# Altium footprint library FRM3-X17_STM32 Range Finder Board.PcbLib: 26 footprints (part 2 of 2)
Each footprint in its own frame and in the unit in brackets; x right, y up, seen from the top. Pads: shape width x height; smd on the part's side, far side on the other; paste and mask are expansions set on the pad; w line width, h text height; cw(c..) or ccw(c..) is an arc to the next point about the centre after c.
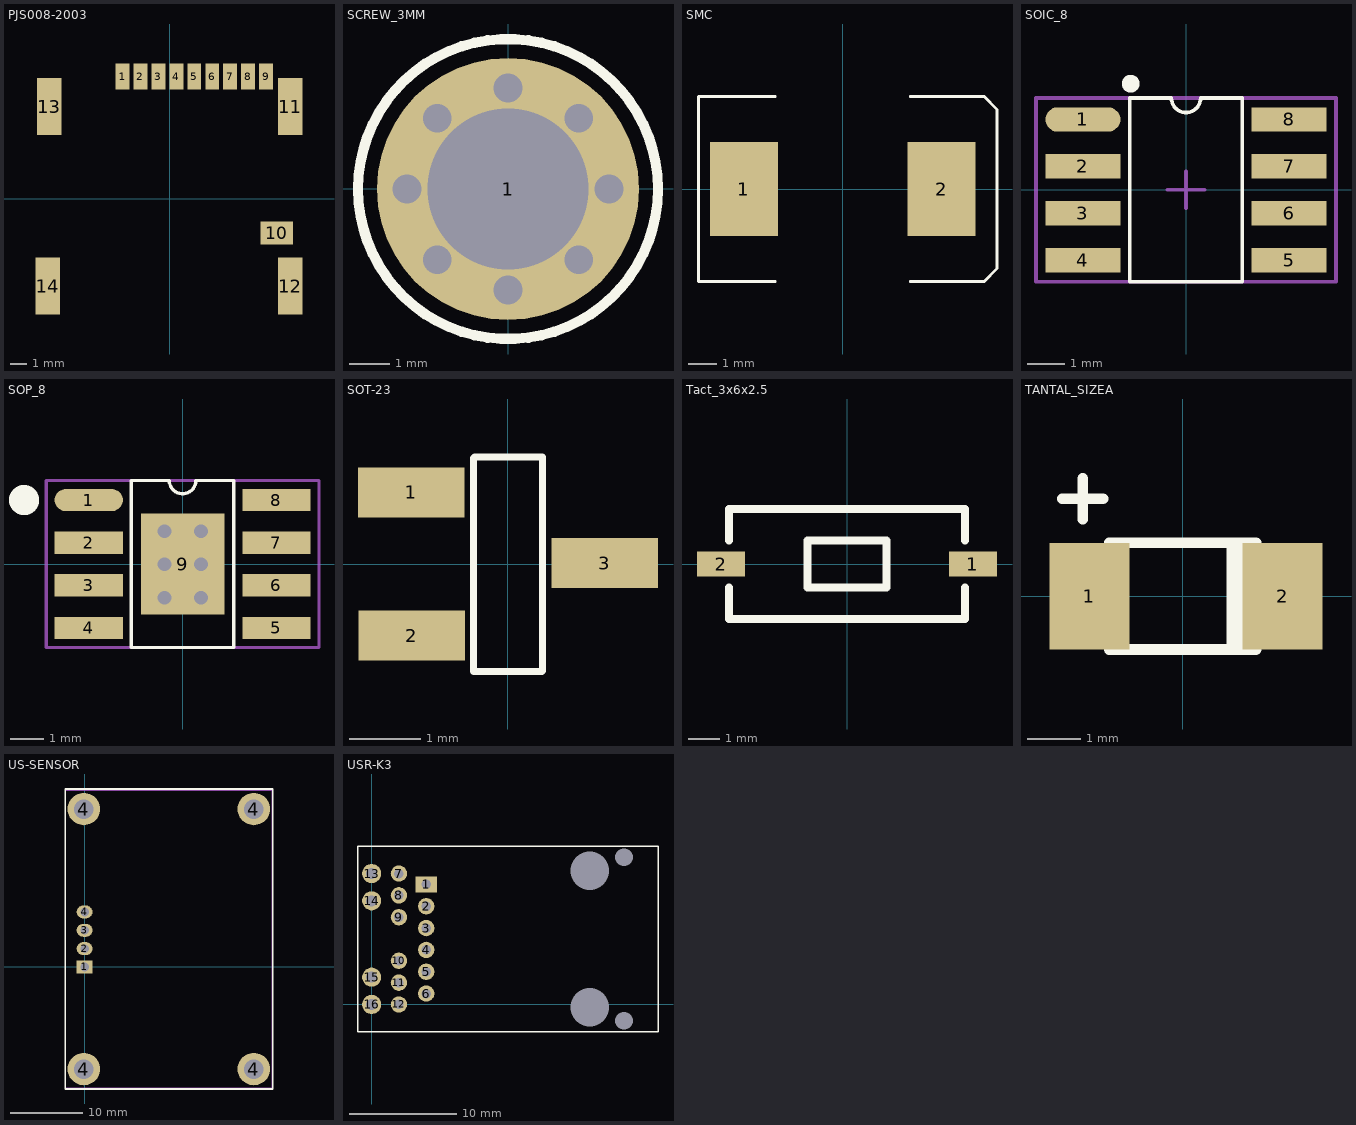
[diagram p1: the footprints below, top view; thin cyan lines are the x and y axes]

## PJS008-2003 [mm]
pads (14):
  rect 0.85x1.6 smd mask+0.05: 1(-2.9,7.5) 2(-1.8,7.5) 3(-0.7,7.5) 4(0.4,7.5) 5(1.5,7.5) 6(2.6,7.5) 7(3.7,7.5) 8(4.8,7.5) 9(5.9,7.5)
  rect 2x1.4 smd mask+0.05: 10(6.55,-2.1)
  rect 1.5x3.5 smd mask+0.05: 11(7.4,5.65) 12(7.4,-5.35) 13(-7.4,5.65) 14(-7.5,-5.35)
3D body "User Library-KARTICA.X_T": height 2.01, standoff 0.01, extent -7.475,-6.84 7.125,7.36

## SCREW_3MM [mm]
height 4.85
pads (1):
  round 6.5 hole 4: 1(0,0)
via 1.75,1.75 diameter 1.27 hole 0.711
via -1.75,1.75 diameter 1.27 hole 0.711
via 0,2.5 diameter 1.27 hole 0.711
via -2.5,0 diameter 1.27 hole 0.711
via 0,-2.5 diameter 1.27 hole 0.711
via 2.5,0 diameter 1.27 hole 0.711
via -1.75,-1.75 diameter 1.27 hole 0.711
via 1.75,-1.75 diameter 1.27 hole 0.711
Top Overlay:
  circle w0.254: c0,0 r3.717

## SMC [mm]
pads (2):
  rect 2.4x3.3 smd: 1(-3.475,0) 2(3.475,0)
Top Overlay:
  lines w0.1: -2.375,-3.25 -5.075,-3.25 -5.075,3.25 -2.375,3.25 ; 2.375,-3.25 4.975,-3.25 5.425,-2.8 5.425,2.795 4.975,3.25 2.375,3.25
3D body "User Library-DO-214AB-SMC.STEP": height 2.4, standoff -0.05, extent -3.9,-2.95 3.9,2.95

## SOIC_8 [mil]
pads (8):
  oval 80x26 smd: 1(-110,75)
  rect 80x26 smd: 2(-110,25) 3(-110,-25) 4(-110,-75) 5(110,-75) 6(110,-25) 7(110,25) 8(110,75)
Top Overlay:
  circle w11.81: c-59.06,113.19 r3.54
  lines w3.94: -60,-98 -60,98 -15.62,98 ccw(c0,98) 15.62,98 60,98 60,-98 -60,-98
Mechanical 15:
  lines w3.94: -19.68,0 19.69,0 ; 0,-19.68 0,19.68 ; -160,-98 160,-98 160,98 -160,98 -160,-98
3D body "SOIC08 narrow.stp": height 78.74, standoff 0.13, extent -121.32,-98.43 121.32,98.42

## SOP_8 [mil]
pads (9):
  oval 80x26 smd: 1(-110,75)
  rect 80x26 smd: 2(-110,25) 3(-110,-25) 4(-110,-75) 5(110,-75) 6(110,-25) 7(110,25) 8(110,75)
  rect 98x118 smd: 9(0,0)
via -21.26,-0.39 diameter 23.62 hole 16
via -21.26,-39.37 diameter 23.62 hole 16
via -21.26,38.58 diameter 23.62 hole 16
via 21.65,-39.37 diameter 23.62 hole 16
via 21.65,-0.39 diameter 23.62 hole 16
via 21.65,38.58 diameter 23.62 hole 16
Top Overlay:
  circle w23.62: c-185.91,75 r5.91
  lines w3.94: -60,-98 60,-98 60,98 15.62,98 cw(c0,98) -15.62,98 -60,98 -60,-98
Mechanical 15:
  lines w3.94: -19.68,0 19.69,0 ; 0,-19.68 0,19.68 ; -160,-98 -160,98 160,98 160,-98 -160,-98
3D body "SOIC08 narrow.stp": height 78.74, standoff 0.13, extent -121.32,-98.43 121.32,98.42

## SOT-23 [mm]
pads (3):
  rect 1.5x0.7 smd: 1(-1.363,1.008) 2(-1.354,-1.008) 3(1.363,0.013)
Top Overlay:
  lines w0.1: -0.485,-1.514 0.477,-1.514 0.485,-1.506 0.485,-1.489 0.485,1.506 -0.468,1.506 -0.485,1.489 -0.485,-1.514
3D body "SOT-23.STEP": height 1.05, standoff -0.05, extent -1.25,-1.5 1.25,1.5

## Tact_3x6x2.5 [mm]
pads (2):
  rect 1.524x0.8 smd: 1(4,0) 2(-4,0)
Top Overlay:
  lines w0.254: -3.75,-0.75 -3.75,-1.75 3.75,-1.75 3.75,-0.75 ; -3.75,0.75 -3.75,1.75 3.75,1.75 3.75,0.75 ; -1.25,-0.75 1.25,-0.75 1.25,0.75 -1.25,0.75 -1.25,-0.75

## TANTAL_SIZEA [mm]
pads (2):
  rect 1.5x2 smd: 1(-1.75,0) 2(1.875,0)
Top Overlay:
  region: 1.375,1 0.825,1 0.825,-1 1.375,-1
  lines w0.2: -2.256,1.823 -1.494,1.823 ; -1.875,1.442 -1.875,2.204 ; -1.375,-1 1.375,-1 1.375,1 -1.375,1
3D body "75450.stp": height 1.81, standoff 0.01, extent -1.45,-0.925 1.95,0.875

## US-SENSOR [mm]
pads (8):
  rect 2.2x1.8 hole 1.2 mask+0.15: 1(0,0)
  oval 2.2x1.8 hole 1.2 mask+0.15: 2(0,2.54) 3(0,5.08) 4(0,7.62)
  round 4.5 hole 2.7: 4(-0.106,-14.135) 4(-0.106,21.865) 4(23.424,-14.135) 4(23.424,21.865)
Top Overlay:
  lines w0.254: -2.667,-16.891 26.035,-16.891 26.035,24.638 -2.667,24.638 -2.667,-16.891
Mechanical 3:
  lines w0.1: -2.641,-16.735 25.959,-16.735 25.959,24.465 -2.641,24.465 -2.641,-16.735 ; -0.416,-0.245 0.434,-0.245 0.434,0.355 -0.416,0.355 -0.416,-0.245 ; -0.416,2.295 0.434,2.295 0.434,2.895 -0.416,2.895 -0.416,2.295 ; -0.416,4.835 0.434,4.835 0.434,5.435 -0.416,5.435 -0.416,4.835 ; -0.416,7.375 0.434,7.375 0.434,7.975 -0.416,7.975 -0.416,7.375
3D body "Ultrasonic Range Finder.stp": height 14.4, standoff -5.4, extent -2.641,-16.735 25.959,24.465

## USR-K3 [mil]
pads (20):
  rect 80x60 hole 35: 1(200,440)
  round 60 hole 35: 2(200,360) 3(200,280) 4(200,200) 5(200,120) 6(200,40) 7(100,480) 8(100,400) 9(100,320) 10(100,160) 11(100,80) 12(100,0)
  round 70 hole 40: 13(0,480) 14(0,380) 15(0,100) 16(0,0)
  round 60 hole 140: ""(800,-10) ""(800,490)
  round 60 hole 65: ""(925,-60) ""(925,540)
Top Overlay:
  lines w5: -50,-100 1050,-100 1050,580 -50,580 -50,-100
3D body "User Library-ARJE-0034 (1).step": height 675.34, standoff 2.95, extent -18.5,-171.59 1055.55,641.6